# Altium schematic symbol library tsx-3225.SchLib: 1 symbol
Pins are listed as number, name and electrical type; pins without a type are passive.

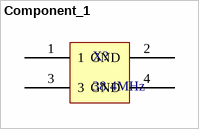
[diagram p0: symbol Component_1]

## Component_1
designator X?, comment 38.4MHz
footprint tsx_3225fp
pins: 1, 2 GND, 3, 4 GND